# Altium footprint library 2020-09-15_19-18-47.PcbLib: 1 footprints
Each footprint in its own frame and in the unit in brackets; x right, y up, seen from the top. Pads: shape width x height; smd on the part's side, far side on the other; paste and mask are expansions set on the pad; w line width, h text height; cw(c..) or ccw(c..) is an arc to the next point about the centre after c.
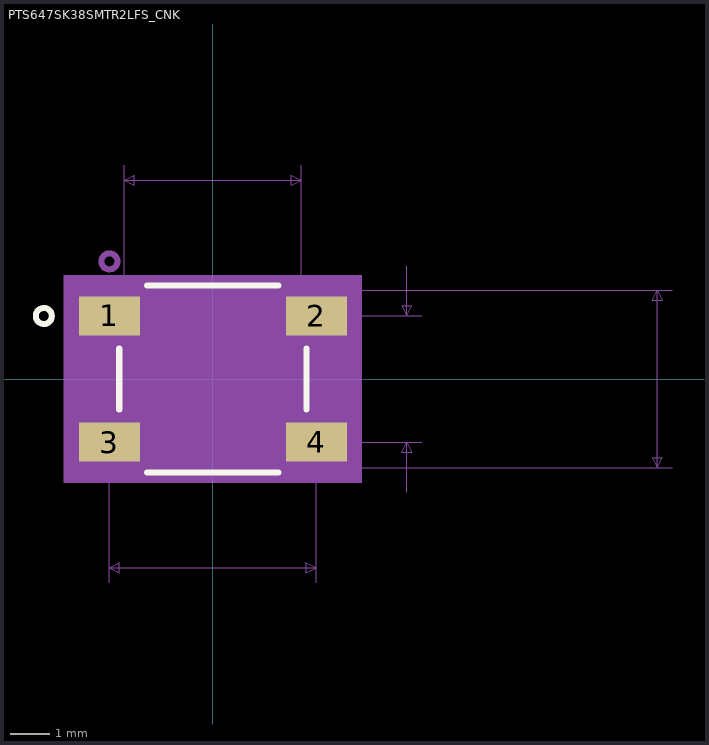
[diagram p0: the footprint, top view; thin cyan lines are the x and y axes]

## PTS647SK38SMTR2LFS_CNK [mm]
pads (4):
  rect 1.549x0.991 smd paste+0 mask+0: 1(-2.625,1.6) 2(2.625,1.6) 3(-2.625,-1.6) 4(2.625,-1.6)
Top Overlay:
  circle w0.152: c-4.289,1.6 r0.203
  lines w0.152: -2.375,-0.772 -2.375,0.772 ; -1.67,-2.375 1.67,-2.375 ; -1.67,2.375 1.67,2.375 ; 2.375,-0.772 2.375,0.772
Mechanical 5:
  region: -3.781,2.629 3.781,2.629 3.781,-2.629 -3.781,-2.629
Mechanical 7:
  lines w0.025: -2.625,-5.169 -2.625,-1.6 ; -2.248,2.248 -2.248,5.423 ; 2.248,-2.248 11.655,-2.248 ; 2.248,5.423 2.248,2.248 11.655,2.248 ; 2.625,-5.169 2.625,-1.6 5.305,-1.6 ; 2.625,1.6 5.305,1.6 ; 4.924,-2.87 4.924,-1.6 ; 4.924,2.87 4.924,1.6 ; -2.625,-4.788 2.625,-4.788 ; -2.625,-4.788 -2.371,-4.661 -2.371,-4.915 -2.625,-4.788 ; -2.248,5.042 2.248,5.042 ; -2.248,5.042 -1.994,5.169 -1.994,4.915 -2.248,5.042 ; 2.248,5.042 1.994,5.169 1.994,4.915 2.248,5.042 ; 2.625,-4.788 2.371,-4.661 2.371,-4.915 2.625,-4.788 ; 4.924,-1.6 4.797,-1.854 5.051,-1.854 4.924,-1.6 ; 4.924,1.6 4.797,1.854 5.051,1.854 4.924,1.6 ; 11.274,-2.248 11.274,2.248 ; 11.274,-2.248 11.147,-1.994 11.401,-1.994 11.274,-2.248 ; 11.274,2.248 11.147,1.994 11.401,1.994 11.274,2.248
  text "Default Padstyle: RX61Y39D0T" at -8.89,-11.646 h1.27
  text "Alt 1 Padstyle: RX60Y90D30P" at -8.572,-14.694 h1.27
  text "Alt 2 Padstyle: RX90Y0D30P" at -8.255,-16.218 h1.27
  text "0.207in/5.25mm" at -2.222,-5.931 h0.64
  text "0.177in/4.496mm" at -2.381,5.55 h0.64
  text "0.126in/3.2mm" at 5.432,-0.318 h0.64
  text "0.177in/4.496mm" at 11.782,-0.318 h0.64
Mechanical 13:
  circle w0.152: c-2.625,2.984 r0.203
  circle w0: c0,0 r1.397
  lines w0.025: -2.625,-1.6 -2.248,-1.6 -2.625,-1.6 ; -2.625,1.6 -2.248,1.6 -2.625,1.6 ; -2.248,-2.248 2.248,-2.248 2.248,2.248 -2.248,2.248 -2.248,-2.248 ; 2.248,-1.6 2.625,-1.6 2.248,-1.6 ; 2.248,1.6 2.625,1.6 2.248,1.6
Mechanical 15:
  region: -2.502,-2.349 -3.654,-2.349 -3.654,2.349 -2.502,2.349 -2.502,2.502 2.502,2.502 2.502,2.349 3.654,2.349 3.654,-2.349 2.502,-2.349 2.502,-2.502 -2.502,-2.502
  lines w0.152: -3.654,-2.349 -3.654,2.349 -2.502,2.349 -2.502,2.502 2.502,2.502 2.502,2.349 3.654,2.349 3.654,-2.349 2.502,-2.349 2.502,-2.502 -2.502,-2.502 -2.502,-2.349 -3.654,-2.349
3D body: height 0.25, standoff 0, extent 0,0 0.254,0.254